# EAGLE library part AD8220 (library ESP32_EIT)
Single-Supply, Rail-to-Rail, Low Power, FET Input Op Amp Source: http://www.analog.com/static/imported-files/data_sheets/AD820.pdf
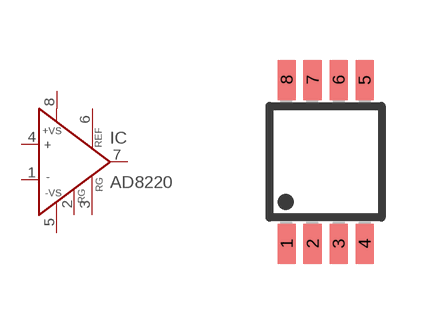
[diagram p1: symbol with the pads of MSOP8; footprint MSOP8]

Designator prefix IC

## AD8220ARMZ  [MSOP8]
1  IN-  in
2  RG  pas
3  RG  pas
4  IN+  in
5  -VS  in
6  REF  pas
7  OUT  out
8  +VS  in

## Footprint MSOP8 (pad centres in mm)
Micro Small Outline Package Grid .65mm
smd 0.45 x 1: 1 -0.975,-2.05; 2 -0.325,-2.05; 3 0.325,-2.05; 4 0.975,-2.05; 5 0.975,2.05; 6 0.325,2.05; 7 -0.325,2.05; 8 -0.975,2.05